# Altium footprint library LWQ38E.PcbLib: 1 footprints
Each footprint in its own frame and in the unit in brackets; x right, y up, seen from the top. Pads: shape width x height; smd on the part's side, far side on the other; paste and mask are expansions set on the pad; w line width, h text height; cw(c..) or ccw(c..) is an arc to the next point about the centre after c.
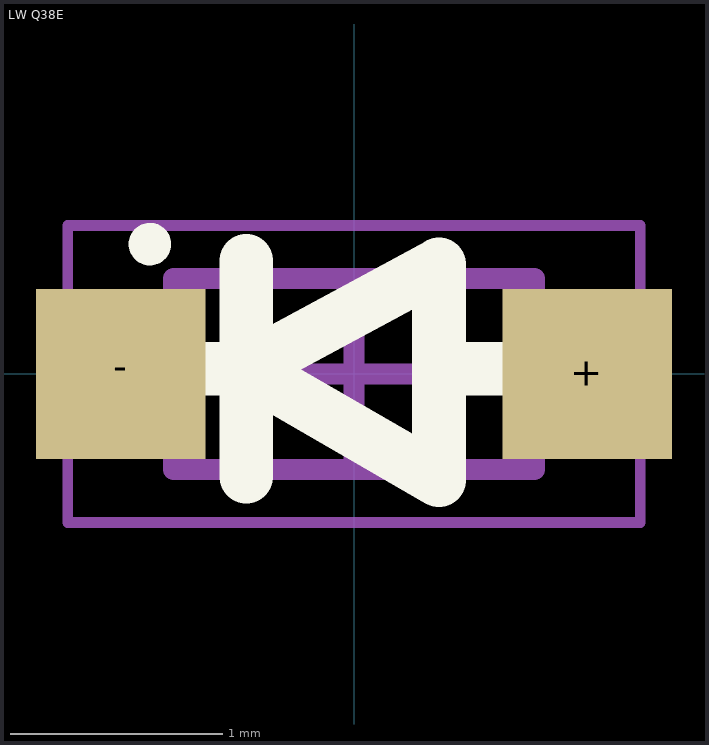
[diagram p0: the footprint, top view; thin cyan lines are the x and y axes]

## LW Q38E [mm] "Chip Diode, 2-Leads, Body 1.60x0.80mm, IPC Medium Density"
height 0.04
pads (2):
  rect 0.8x0.8 smd: +(1.1,0) -(-1.1,0)
Top Overlay:
  circle w0.1: c-0.962,0.612 r0.05
  lines w0.254: -0.889,0.025 -0.508,0.025 ; -0.508,-0.483 -0.508,0.533 ; 0.406,0.025 0.787,0.025 ; -0.508,0.025 0.4,-0.5 0.4,0.516 -0.508,0.025
Mechanical 13:
  lines w0.1: -0.85,-0.45 0.85,-0.45 0.85,0.45 -0.85,0.45 -0.85,-0.45
Mechanical 15:
  lines w0.05: -1.35,-0.7 1.35,-0.7 1.35,0.7 -1.35,0.7 -1.35,-0.7
  lines w0.1: -0.45,0 0.45,0 ; 0,-0.45 0,0.45
3D body: height 0.04, standoff 0, extent -0.8,-0.45 0.8,0.45